# EAGLE library part NIM2 (library Mine)
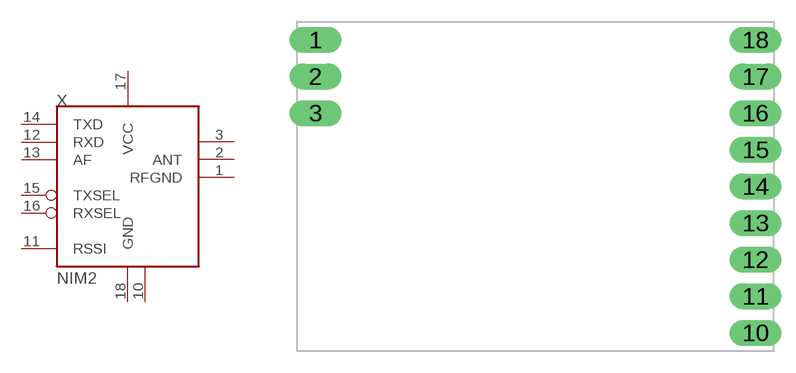
[diagram p15: symbol with the pads of NIM2PK; footprint NIM2PK]

Designator prefix X

## NIM2  [NIM2PK]
1  RFGND  pwr
2  ANT
3  RFGND3  pwr
10  GND10  pwr
11  RSSI  out
12  RXD  out
13  AF  out
14  TXD  in
15  TXSEL  in
16  RXSEL  in
17  VCC  pwr
18  GND  pwr

## Footprint NIM2PK (pad centres in mm)
drill 1.2 long: 1 -15.24,5.08; 2 -15.24,2.54; 3 -15.24,0; 10 15.24,-15.24; 11 15.24,-12.7; 12 15.24,-10.16; 13 15.24,-7.62; 14 15.24,-5.08; 15 15.24,-2.54; 16 15.24,0; 17 15.24,2.54; 18 15.24,5.08